# EAGLE library part STM32G0-28 (library Bits_library_eagle 9x)
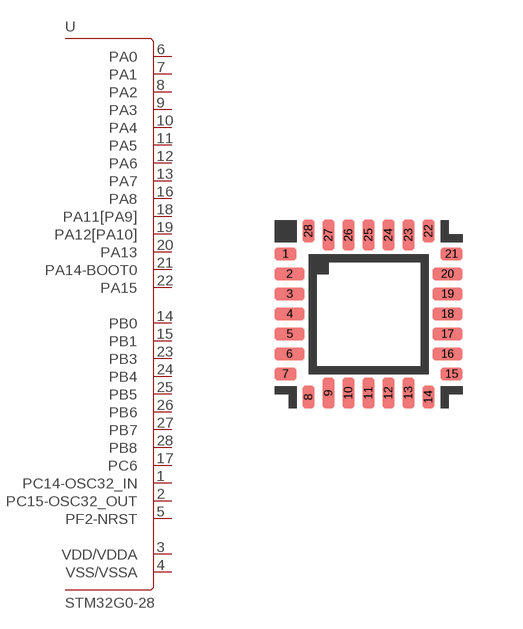
[diagram p34: symbol with the pads of UFQFPN28; footprint UFQFPN28]

Designator prefix -

## STM32G0-28  [UFQFPN28]
1  PC14-OSC32_IN
2  PC15-OSC32_OUT
3  VDD/VDDA  pwr
4  VSS/VSSA  pwr
5  PF2-NRST
6  PA0
7  PA1
8  PA2
9  PA3
10  PA4
11  PA5
12  PA6
13  PA7
14  PB0
15  PB1
16  PA8
17  PC6
18  PA11[PA9]
19  PA12[PA10]
20  PA13
21  PA14-BOOT0
22  PA15
23  PB3
24  PB4
25  PB5
26  PB6
27  PB7
28  PB8

## Footprint UFQFPN28 (pad centres in mm)
smd 0.55 x 0.3: 1 -2.075,1.5; 7 -2.075,-1.5; 15 2.075,-1.5; 21 2.075,1.5
smd 0.75 x 0.3: 2 -1.975,1; 3 -1.975,0.5; 4 -1.975,0; 5 -1.975,-0.5; 6 -1.975,-1; 16 1.975,-1; 17 1.975,-0.5; 18 1.975,0; 19 1.975,0.5; 20 1.975,1
smd 0.3 x 0.55: 8 -1.5,-2.075; 14 1.5,-2.075; 22 1.5,2.075; 28 -1.5,2.075
smd 0.3 x 0.75: 9 -1,-1.975; 10 -0.5,-1.975; 11 0,-1.975; 12 0.5,-1.975; 13 1,-1.975; 23 1,1.975; 24 0.5,1.975; 25 0,1.975; 26 -0.5,1.975; 27 -1,1.975